# Altium footprint library bluetooth modules.PcbLib: 1 footprints
Each footprint in its own frame and in the unit in brackets; x right, y up, seen from the top. Pads: shape width x height; smd on the part's side, far side on the other; paste and mask are expansions set on the pad; w line width, h text height; cw(c..) or ccw(c..) is an arc to the next point about the centre after c.
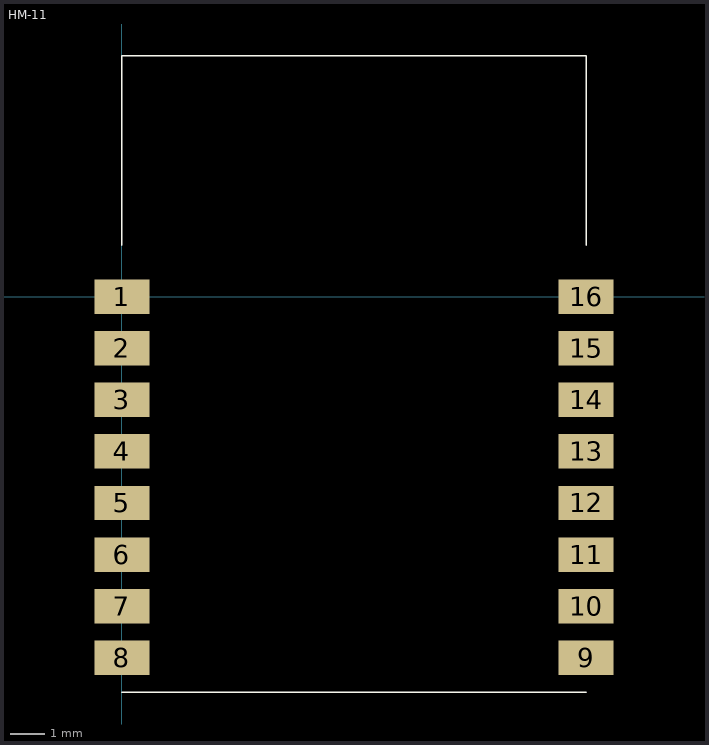
[diagram p0: the footprint, top view; thin cyan lines are the x and y axes]

## HM-11 [mm] "HM-11 Bluetooth Module"
height 2.3
pads (16):
  rect 1.6x1 smd: 1(0,0) 2(0,-1.5) 3(0,-3) 4(0,-4.5) 5(0,-6) 6(0,-7.5) 7(0,-9) 8(0,-10.5) 9(13.5,-10.5) 10(13.5,-9) 11(13.5,-7.5) 12(13.5,-6) 13(13.5,-4.5) 14(13.5,-3) 15(13.5,-1.5) 16(13.5,0)
Top Overlay:
  lines w0.05: 0,-11.5 13.5,-11.5 ; 0,1.5 0,7 13.5,7 13.5,1.5
3D body: height 1.7, standoff -0.1, extent 0,-11.4 13.5,7.1